# Altium schematic symbol library OP AMP.SchLib: 2 symbols
Pins are listed as number, name and electrical type; pins without a type are passive.

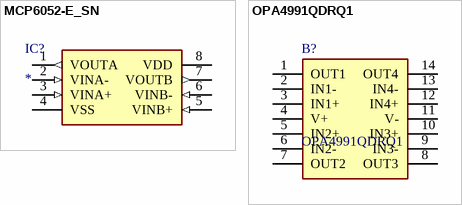
[diagram p0: symbols MCP6052-E_SN to OPA4991QDRQ1]

## MCP6052-E_SN
designator IC?
Integrated Circuit; Manufacturer_Name: Microchip; Manufacturer_Part_Number: MCP6052-E/SN; Description: Dual 1.8V 300kHz Op Amp; Datasheet Link: http://ww1.microchip.com/downloads/en/DeviceDoc/MCP6051_DS22182B.pdf; Height: 1.75mm; Mouser Part Number: 579-MCP6052-E/SN; Mouser Price/Stock: https://www.mouser.com/Search/Refine.aspx?Keyword=579-MCP6052-E%2FSN
footprint MCP6052-E_SN
pins: 1 VOUTA (out), 2 VINA- (in), 3 VINA+ (in), 4 VSS (power), 5 VINB+ (in), 6 VINB- (in), 7 VOUTB (out), 8 VDD (power)

## OPA4991QDRQ1
designator B?
Operational Amplifiers - Op Amps Automotive-grade, quad, 40-V, 4.5-MHz, low-power operational amplifier; Manufacturer_Name: Texas Instruments; Geometry.Height: 1.75mm; Mouser Part Number: 595-OPA4991QDRQ1; Mouser Price/Stock: https://www.mouser.co.uk/ProductDetail/Texas-Instruments/OPA4991QDRQ1?qs=Rp5uXu7WBW8O3FoPRuKIAQ%3D%3D; Manufacturer_Part_Number: OPA4991QDRQ1; Datasheet Link: https://www.ti.com/lit/ds/symlink/opa4991-q1.pdf?ts=1681108583924&ref_url=https%253A%252F%252Fwww.ti.com%252Fsitesearch%252Fen-us%252Fdocs%252Funiversalsearch.tsp%253FlangPref%253Den-US%2526searchTerm%253DOPA4991QDRQ1%2526nr%253D8
footprint OPA4991QDRQ1
pins: 1 OUT1, 2 IN1-, 3 IN1+, 4 V+, 5 IN2+, 6 IN2-, 7 OUT2, 8 OUT3, 9 IN3-, 10 IN3+, 11 V-, 12 IN4+, 13 IN4-, 14 OUT4